# Altium schematic symbol library ZXMP3.SchLib: 1 symbol
Pins are listed as number, name and electrical type; pins without a type are passive.

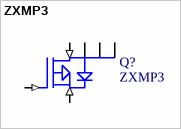
[diagram p0: symbol ZXMP3]

## ZXMP3
designator Q?
pins: 1 DRAIN (in), 2 Drain, 3 GATE (in), 4 SOURCE (in), 5 Drain, 6 Drain